# EAGLE library part 0.5_INCH_OLED (library r1)
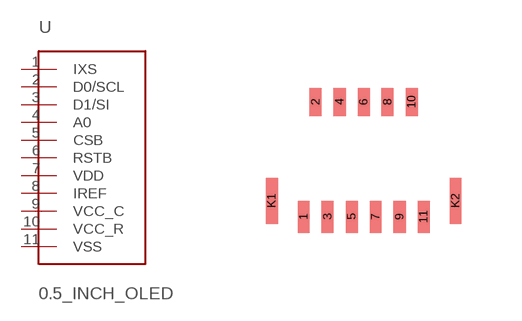
[diagram p0: symbol with the pads of BL125-11RL-TAGF; footprint BL125-11RL-TAGF]

Designator prefix -

## 0.5_INCH_OLED  [BL125-11RL-TAGF]
1  IXS
2  D0/SCL
3  D1/SI
4  A0
5  CSB
6  RSTB
7  VDD
8  IREF
9  VCC_C
10  VCC_R
11  VSS

## Footprint BL125-11RL-TAGF (pad centres in mm)
smd 0.3 x 0.8: 1 -1.5,-1.475; 3 -0.9,-1.475; 5 -0.3,-1.475; 7 0.3,-1.475; 9 0.9,-1.475; 11 1.5,-1.475
smd 0.3 x 0.7: 2 -1.2,1.4; 4 -0.6,1.4; 6 0,1.4; 8 0.6,1.4; 10 1.2,1.4
smd 0.3 x 1.15: K1 -2.3,-1.075; K2 2.3,-1.075